# Altium schematic symbol library MB0036A.01.A.1.SchLib: 1 symbol
Pins are listed as number, name and electrical type; pins without a type are passive.

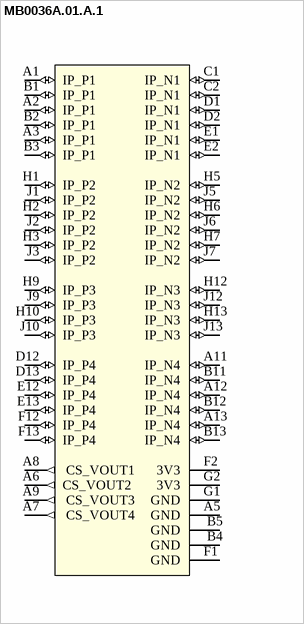
[diagram p0: symbol MB0036A.01.A.1]

## MB0036A.01.A.1
designator U?
pins:  B1 IP_P1 (io),  B2 IP_P1 (io),  B3 IP_P1 (io),  B4 GND (power),  B5 GND (power), A1 IP_P1 (io), A2 IP_P1 (io), A3 IP_P1 (io), A5 GND (power), A6 CS_VOUT2 (out), A7  CS_VOUT4 (out), A8  CS_VOUT1 (out), A9  CS_VOUT3 (out), A11 IP_N4 (io), A12 IP_N4 (io), A13 IP_N4 (io), B11 IP_N4 (io), B12 IP_N4 (io), B13 IP_N4 (io), C1 IP_N1 (io), C2 IP_N1 (io), D1 IP_N1 (io), D2 IP_N1 (io), D12 IP_P4 (io), D13 IP_P4 (io), E1 IP_N1 (io), E2 IP_N1 (io), E12 IP_P4 (io), E13 IP_P4 (io), F1 GND (power), F2 3V3 (power), F12 IP_P4 (io), F13 IP_P4 (io), G1 GND (power), G2 3V3 (power), H1 IP_P2 (io), H2 IP_P2 (io), H3 IP_P2 (io), H5 IP_N2 (io), H6 IP_N2 (io), H7 IP_N2 (io), H9 IP_P3 (io), H10 IP_P3 (io), H12 IP_N3 (io), H13 IP_N3 (io), J1 IP_P2 (io), J2 IP_P2 (io), J3 IP_P2 (io), J5 IP_N2 (io), J6 IP_N2 (io), J7 IP_N2 (io), J9 IP_P3 (io), J10 IP_P3 (io), J12 IP_N3 (io), J13 IP_N3 (io)